# Altium schematic symbol library FI_CM_CHOKE.SchLib: 1 symbol
Pins are listed as number, name and electrical type; pins without a type are passive.

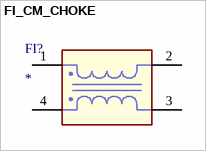
[diagram p0: symbol FI_CM_CHOKE]

## FI_CM_CHOKE
designator FI?
pins: 1, 2, 3, 4